# Altium integrated library Analog Devices Interface and Isolation Digital Isolators.IntLib: 645 symbols (part 19 of 36)
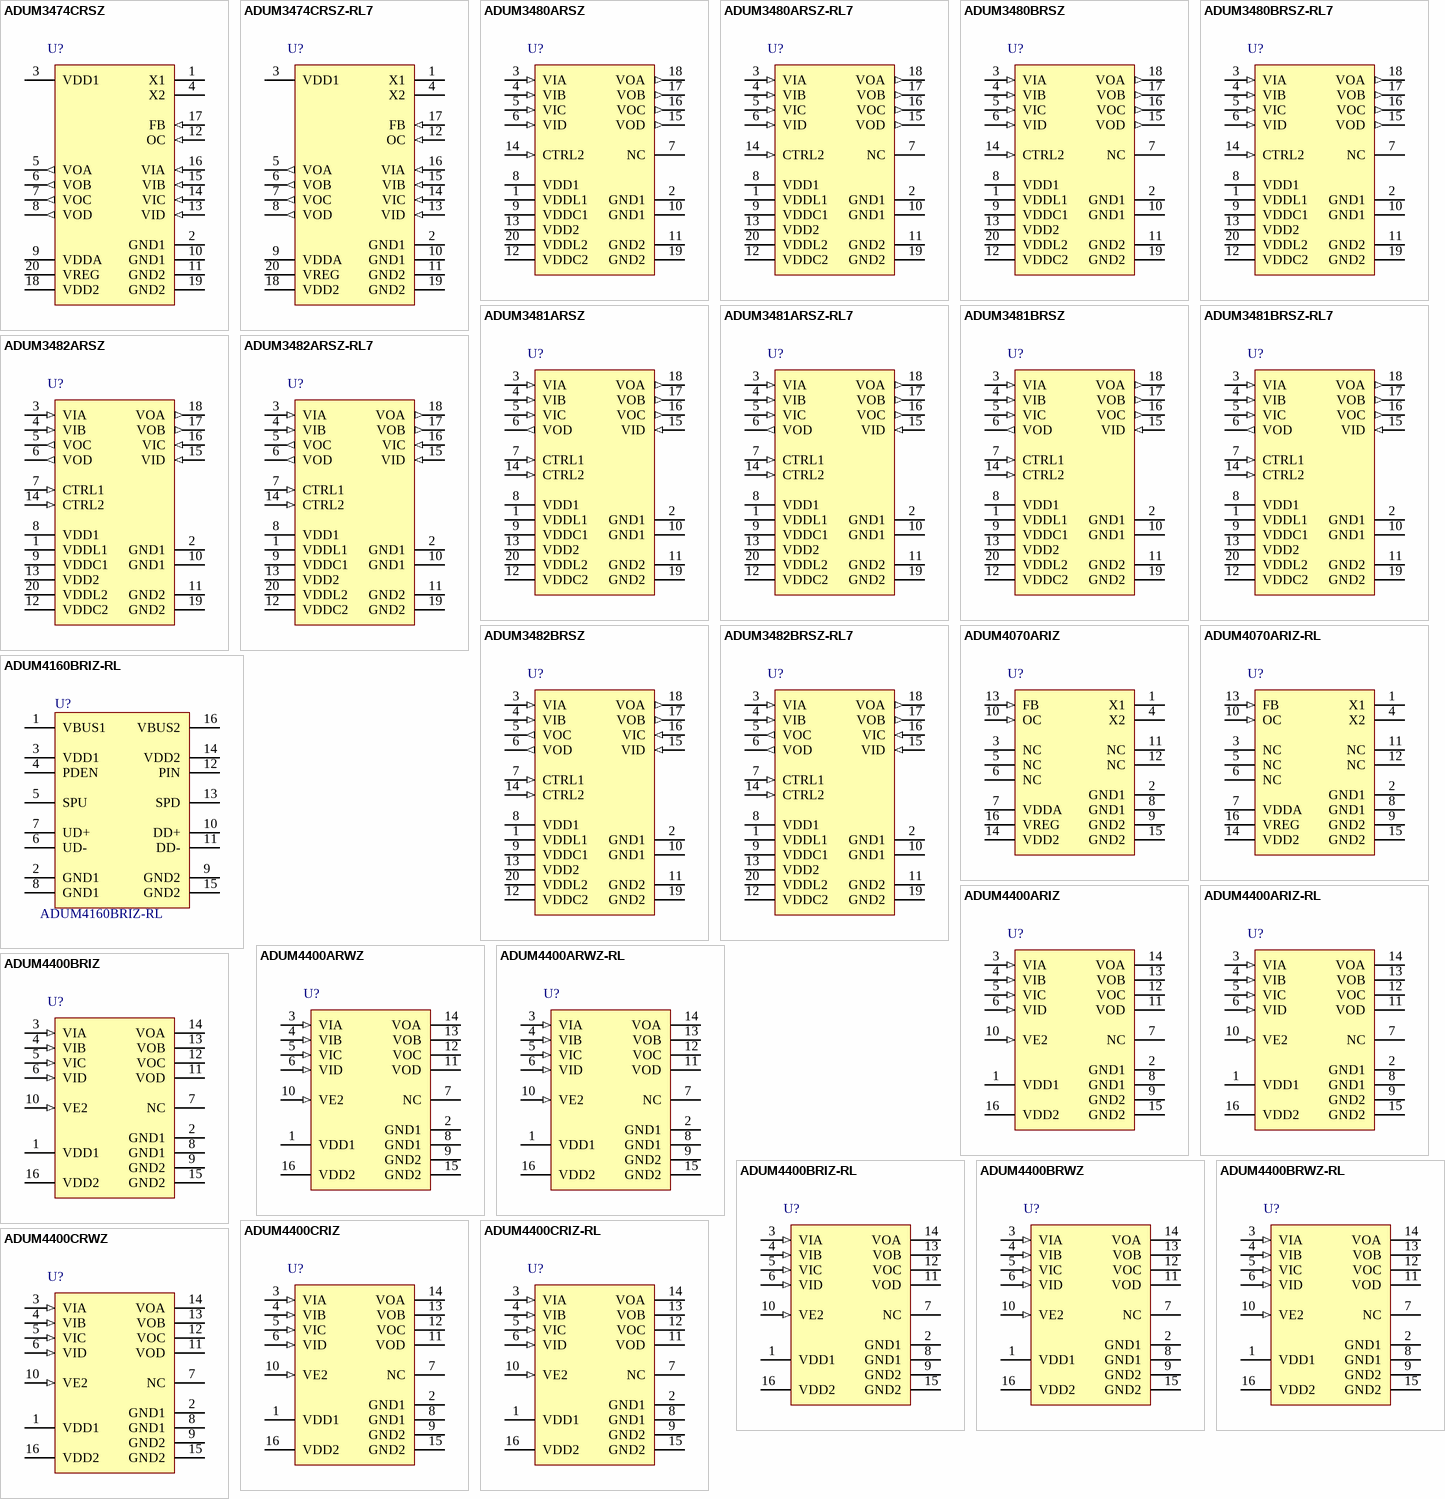
[diagram p38: symbols ADUM3474CRSZ to ADUM4400CRWZ]

## ADUM3474CRSZ-RL7
designator U?
Isolated Switching Regulator, 2.5 KV rms Insulation Rating, 25 Mbps Data Rate, 60 ns Delay, Industrial, 20-pin SOP (RS-20), Reel; Manufacturer: Analog Devices; PartNumber: ADUM3474CRSZ-RL7; Insulation Rating (kVrms): 2.5; Max Data Rate: 25Mbps; Prop Delay: 60ns; DatasheetVersion: Rev. 0; PackageVersion: Mar-03; PackageReference: RS-20; PackageDescription: 20-Pin Shrink Small Outline Package, Body 7.2 x 5.3 mm, Pitch 0.65 mm; Supplier 1: Mouser; Supplier Part Number 1: 584-ADUM3474CRSZ-R7; Max Operating Temp (degreesC): 105; Mounting Technology: Surface Mount; Code_JEDEC: MO-150AE; ComponentLink1Description: Manufacturer URL; ComponentLink1URL: http://www.analog.com/en/index.html; ComponentLink2Description: Datasheet; ComponentLink2URL: http://www.analog.com/static/imported-files/data_sheets/ADuM3470_3471_3472_3473_3474.pdf; ComponentLink3Description: Package Specification; ComponentLink3URL: http://www.analog.com/static/imported-files/packages/318405805657546556503576154334802686596RS_20.pdf
footprint ADI-RS-20_N (SOP, 20-Leads, Body 7.2x5.3mm, Pitch 0.65mm, IPC Medium Density)
footprint ADI-RS-20_L (SOP, 20-Leads, Body 7.2x5.3mm, Pitch 0.65mm, IPC High Density)
footprint ADI-RS-20_M (SOP, 20-Leads, Body 7.2x5.3mm, Pitch 0.65mm, IPC Low Density)
pins: 1 X1 (power) "Transformer Driver Output 1.", 2 GND1 (power) "Ground 1. Ground reference for isolator primary.", 3 VDD1 (power) "Transformer Driver Supply Voltage 3.0 V to 5.5 V. Connect to VDDA pin. Connect a 10 uF bypass capacitor from VDD1 to GND1.", 4 X2 (power) "Transformer Driver Output 2.", 5 VOA (out) "Logic Output A.", 6 VOB (out) "Logic Output B.", 7 VOC (out) "Logic Output C.", 8 VOD (out) "Logic Output D.", 9 VDDA (power) "Primary Supply Voltage 3.0 V to 5.5 V. Connect to VDD1 pin. Connect a 0.1 uF bypass capacitor from VDDA to GND1.", 10 GND1 (power) "Ground 1. Ground reference for isolator primary.", 11 GND2 (power) "Ground Reference for Isolator Side 2.", 12 OC (in) "Oscillator Control Pin. When OC = logic high = VDD2, the secondary controller runs open-loop. To regulate the output voltage, connect a resistor between the OC pin and GND2, and the secondary controller runs at a frequency (See Datasheet)", 13 VID (in) "Logic Input D.", 14 VIC (in) "Logic Input C.", 15 VIB (in) "Logic Input B.", 16 VIA (in) "Logic Input A.", 17 FB (in) "Feedback Input from the Secondary Output Voltage VISO. Use a resistor divider from VISO to the FB pin to make the VFB voltage equal to the 1.25 V internal reference level using the VISO = VFB x (R1 + R2)/R2 formula. The (See Datasheet)", 18 VDD2 (power) "The Internal Supply Voltage Pin for the Secondary Side Controller and Side 2 Data Channels. When a sufficient external voltage is supplied to VREG, the internal regulator regulates the VDD2 pin to 5.0 V. Otherwise, VDD2 (See Datasheet)", 19 GND2 (power) "Ground Reference for Isolator Side 2.", 20 VREG (power) "The Input of the Internal Regulator to Power the Secondary Side Controller and Side 2 Data Channels. VREG should be in the 5.5 V to 15 V range to regulate the VDD2 output to 5.0 V."

## ADUM3480ARSZ
designator U?
Quad Channel Small Isolator, 3.75 KV rms Insulation Rating, 1 Mbps Data Rate, 90 ns Delay, Industrial, 20-pin SOP (RS-20), Tube; Manufacturer: Analog Devices; PartNumber: ADUM3480ARSZ; Insulation Rating (kVrms): 3.75; Max Data Rate: 1Mbps; DatasheetVersion: Rev. 0; PackageVersion: Mar-03; PackageReference: RS-20; PackageDescription: 20-Pin Shrink Small Outline Package, Body 7.2 x 5.3 mm, Pitch 0.65 mm; Supplier 1: Digi-Key; Supplier Part Number 1: ADUM3480ARSZ-ND; Max Operating Temp (degreesC): 125; Mounting Technology: Surface Mount; Code_JEDEC: MO-150AE; ComponentLink1Description: Manufacturer URL; ComponentLink1URL: http://www.analog.com/en/index.html; ComponentLink2Description: Datasheet; ComponentLink2URL: http://www.analog.com/static/imported-files/data_sheets/ADuM3480_3481_3482.pdf; ComponentLink3Description: Package Specification; ComponentLink3URL: http://www.analog.com/static/imported-files/packages/318405805657546556503576154334802686596RS_20.pdf; ComponentLink4Description: URL Link1; ComponentLink4URL: Product URL:http://www.analog.com/en/interface-isolation/digital-isolators/adum3480/products/product.html
footprint ADI-RS-20_N (SOP, 20-Leads, Body 7.2x5.3mm, Pitch 0.65mm, IPC Medium Density)
footprint ADI-RS-20_L (SOP, 20-Leads, Body 7.2x5.3mm, Pitch 0.65mm, IPC High Density)
footprint ADI-RS-20_M (SOP, 20-Leads, Body 7.2x5.3mm, Pitch 0.65mm, IPC Low Density)
pins: 1 VDDL1 (power) "1.8 V to 5.5 V Supply Voltage for Isolator Side 1 Input/Output Circuits. Bypass VDDL1 to GND1 with a 0.01 uF to 0.1 uF ceramic capacitor. For 3.0 V to 5.5 V input/output operation, VDDL1 can be connected directly to VDD1.", 2 GND1 (power) "Ground 1. Ground reference for Isolator Side 1. Pin 2 and Pin 10 are internally connected, and connecting both to the PCB ground plane as close to the part as possible is recommended.", 3 VIA (in) "Logic Input A.", 4 VIB (in) "Logic Input B.", 5 VIC (in) "Logic Input C.", 6 VID (in) "Logic Input D.", 7 NC "No Connection. This pin is not connected internally and can be left floating or connected to VDD1 or GND1.", 8 VDD1 (power) "3.0 V to 5.5 V Supply Voltage for Isolator Side 1.", 9 VDDC1 (power) "Output Pin of an Internal Regulator for Side 1. Bypass VDDC1 to GND1 with a 0.01 uF to 0.1 uF ceramic capacitor. Do not use this pin to power external circuits.", 10 GND1 (power) "Ground 1. Ground reference for Isolator Side 1. Pin 2 and Pin 10 are internally connected, and connecting both to the PCB ground plane as close to the part as possible is recommended.", 11 GND2 (power) "Ground 2. Ground reference for Isolator Side 2. Pin 11 and Pin 19 are internally connected, and connecting both to the PCB ground plane as close to the part as possible is recommended.", 12 VDDC2 (power) "Output Pin of an Internal Regulator for Side 2. Bypass VDDC2 to GND2 with a 0.01 uF to 0.1 uF ceramic capacitor. Do not use this pin to power external circuits.", 13 VDD2 (power) "3.0 V to 5.5 V Supply Voltage for Isolator Side 2.", 14 CTRL2 (in) "Select Side 2 Output Default Level. Low = default output low. High = default output high.", 15 VOD (out) "Logic Output D.", 16 VOC (out) "Logic Output C.", 17 VOB (out) "Logic Output B.", 18 VOA (out) "Logic Output A.", 19 GND2 (power) "Ground 2. Ground reference for Isolator Side 2. Pin 11 and Pin 19 are internally connected, and connecting both to the PCB ground plane as close to the part as possible is recommended.", 20 VDDL2 (power) "1.8 V to 5.5 V Supply Voltage for Isolator Side 2 Input/Output Circuits. Bypass VDDL2 to GND2 with a 0.01 uF to 0.1 uF ceramic capacitor. For 3.0 V to 5.5 V input/output operation, VDDL2 can be connected directly to VDD2."

## ADUM3480ARSZ-RL7
designator U?
Quad Channel Small Isolator, 3.75 KV rms Insulation Rating, 1 Mbps Data Rate, 90 ns Delay, Industrial, 20-pin SOP (RS-20), Reel; Manufacturer: Analog Devices; PartNumber: ADUM3480ARSZ-RL7; Insulation Rating (kVrms): 3.75; Max Data Rate: 1Mbps; DatasheetVersion: Rev. 0; PackageVersion: Mar-03; PackageReference: RS-20; PackageDescription: 20-Pin Shrink Small Outline Package, Body 7.2 x 5.3 mm, Pitch 0.65 mm; Supplier 1: Digi-Key; Supplier Part Number 1: ADUM3480ARSZ-RL7-ND; Max Operating Temp (degreesC): 125; Mounting Technology: Surface Mount; Code_JEDEC: MO-150AE; ComponentLink1Description: Manufacturer URL; ComponentLink1URL: http://www.analog.com/en/index.html; ComponentLink2Description: Datasheet; ComponentLink2URL: http://www.analog.com/static/imported-files/data_sheets/ADuM3480_3481_3482.pdf; ComponentLink3Description: Package Specification; ComponentLink3URL: http://www.analog.com/static/imported-files/packages/318405805657546556503576154334802686596RS_20.pdf; ComponentLink4Description: URL Link1; ComponentLink4URL: Product URL:http://www.analog.com/en/interface-isolation/digital-isolators/adum3480/products/product.html
footprint ADI-RS-20_N (SOP, 20-Leads, Body 7.2x5.3mm, Pitch 0.65mm, IPC Medium Density)
footprint ADI-RS-20_L (SOP, 20-Leads, Body 7.2x5.3mm, Pitch 0.65mm, IPC High Density)
footprint ADI-RS-20_M (SOP, 20-Leads, Body 7.2x5.3mm, Pitch 0.65mm, IPC Low Density)
pins: 1 VDDL1 (power) "1.8 V to 5.5 V Supply Voltage for Isolator Side 1 Input/Output Circuits. Bypass VDDL1 to GND1 with a 0.01 uF to 0.1 uF ceramic capacitor. For 3.0 V to 5.5 V input/output operation, VDDL1 can be connected directly to VDD1.", 2 GND1 (power) "Ground 1. Ground reference for Isolator Side 1. Pin 2 and Pin 10 are internally connected, and connecting both to the PCB ground plane as close to the part as possible is recommended.", 3 VIA (in) "Logic Input A.", 4 VIB (in) "Logic Input B.", 5 VIC (in) "Logic Input C.", 6 VID (in) "Logic Input D.", 7 NC "No Connection. This pin is not connected internally and can be left floating or connected to VDD1 or GND1.", 8 VDD1 (power) "3.0 V to 5.5 V Supply Voltage for Isolator Side 1.", 9 VDDC1 (power) "Output Pin of an Internal Regulator for Side 1. Bypass VDDC1 to GND1 with a 0.01 uF to 0.1 uF ceramic capacitor. Do not use this pin to power external circuits.", 10 GND1 (power) "Ground 1. Ground reference for Isolator Side 1. Pin 2 and Pin 10 are internally connected, and connecting both to the PCB ground plane as close to the part as possible is recommended.", 11 GND2 (power) "Ground 2. Ground reference for Isolator Side 2. Pin 11 and Pin 19 are internally connected, and connecting both to the PCB ground plane as close to the part as possible is recommended.", 12 VDDC2 (power) "Output Pin of an Internal Regulator for Side 2. Bypass VDDC2 to GND2 with a 0.01 uF to 0.1 uF ceramic capacitor. Do not use this pin to power external circuits.", 13 VDD2 (power) "3.0 V to 5.5 V Supply Voltage for Isolator Side 2.", 14 CTRL2 (in) "Select Side 2 Output Default Level. Low = default output low. High = default output high.", 15 VOD (out) "Logic Output D.", 16 VOC (out) "Logic Output C.", 17 VOB (out) "Logic Output B.", 18 VOA (out) "Logic Output A.", 19 GND2 (power) "Ground 2. Ground reference for Isolator Side 2. Pin 11 and Pin 19 are internally connected, and connecting both to the PCB ground plane as close to the part as possible is recommended.", 20 VDDL2 (power) "1.8 V to 5.5 V Supply Voltage for Isolator Side 2 Input/Output Circuits. Bypass VDDL2 to GND2 with a 0.01 uF to 0.1 uF ceramic capacitor. For 3.0 V to 5.5 V input/output operation, VDDL2 can be connected directly to VDD2."

## ADUM3480BRSZ
designator U?
Quad Channel Small Isolator, 3.75 KV rms Insulation Rating, 25 Mbps Data Rate, 33 ns Delay, Industrial, 20-pin SOP (RS-20), Tube; Manufacturer: Analog Devices; PartNumber: ADUM3480BRSZ; Insulation Rating (kVrms): 3.75; Max Data Rate: 25Mbps; DatasheetVersion: Rev. 0; PackageVersion: Mar-03; PackageReference: RS-20; PackageDescription: 20-Pin Shrink Small Outline Package, Body 7.2 x 5.3 mm, Pitch 0.65 mm; Supplier 1: Digi-Key; Supplier Part Number 1: ADUM3480BRSZ-ND; Max Operating Temp (degreesC): 125; Mounting Technology: Surface Mount; Code_JEDEC: MO-150AE; ComponentLink1Description: Manufacturer URL; ComponentLink1URL: http://www.analog.com/en/index.html; ComponentLink2Description: Datasheet; ComponentLink2URL: http://www.analog.com/static/imported-files/data_sheets/ADuM3480_3481_3482.pdf; ComponentLink3Description: Package Specification; ComponentLink3URL: http://www.analog.com/static/imported-files/packages/318405805657546556503576154334802686596RS_20.pdf; ComponentLink4Description: URL Link1; ComponentLink4URL: Product URL:http://www.analog.com/en/interface-isolation/digital-isolators/adum3480/products/product.html
footprint ADI-RS-20_N (SOP, 20-Leads, Body 7.2x5.3mm, Pitch 0.65mm, IPC Medium Density)
footprint ADI-RS-20_L (SOP, 20-Leads, Body 7.2x5.3mm, Pitch 0.65mm, IPC High Density)
footprint ADI-RS-20_M (SOP, 20-Leads, Body 7.2x5.3mm, Pitch 0.65mm, IPC Low Density)
pins: 1 VDDL1 (power) "1.8 V to 5.5 V Supply Voltage for Isolator Side 1 Input/Output Circuits. Bypass VDDL1 to GND1 with a 0.01 uF to 0.1 uF ceramic capacitor. For 3.0 V to 5.5 V input/output operation, VDDL1 can be connected directly to VDD1.", 2 GND1 (power) "Ground 1. Ground reference for Isolator Side 1. Pin 2 and Pin 10 are internally connected, and connecting both to the PCB ground plane as close to the part as possible is recommended.", 3 VIA (in) "Logic Input A.", 4 VIB (in) "Logic Input B.", 5 VIC (in) "Logic Input C.", 6 VID (in) "Logic Input D.", 7 NC "No Connection. This pin is not connected internally and can be left floating or connected to VDD1 or GND1.", 8 VDD1 (power) "3.0 V to 5.5 V Supply Voltage for Isolator Side 1.", 9 VDDC1 (power) "Output Pin of an Internal Regulator for Side 1. Bypass VDDC1 to GND1 with a 0.01 uF to 0.1 uF ceramic capacitor. Do not use this pin to power external circuits.", 10 GND1 (power) "Ground 1. Ground reference for Isolator Side 1. Pin 2 and Pin 10 are internally connected, and connecting both to the PCB ground plane as close to the part as possible is recommended.", 11 GND2 (power) "Ground 2. Ground reference for Isolator Side 2. Pin 11 and Pin 19 are internally connected, and connecting both to the PCB ground plane as close to the part as possible is recommended.", 12 VDDC2 (power) "Output Pin of an Internal Regulator for Side 2. Bypass VDDC2 to GND2 with a 0.01 uF to 0.1 uF ceramic capacitor. Do not use this pin to power external circuits.", 13 VDD2 (power) "3.0 V to 5.5 V Supply Voltage for Isolator Side 2.", 14 CTRL2 (in) "Select Side 2 Output Default Level. Low = default output low. High = default output high.", 15 VOD (out) "Logic Output D.", 16 VOC (out) "Logic Output C.", 17 VOB (out) "Logic Output B.", 18 VOA (out) "Logic Output A.", 19 GND2 (power) "Ground 2. Ground reference for Isolator Side 2. Pin 11 and Pin 19 are internally connected, and connecting both to the PCB ground plane as close to the part as possible is recommended.", 20 VDDL2 (power) "1.8 V to 5.5 V Supply Voltage for Isolator Side 2 Input/Output Circuits. Bypass VDDL2 to GND2 with a 0.01 uF to 0.1 uF ceramic capacitor. For 3.0 V to 5.5 V input/output operation, VDDL2 can be connected directly to VDD2."

## ADUM3480BRSZ-RL7
designator U?
Quad Channel Small Isolator, 3.75 KV rms Insulation Rating, 25 Mbps Data Rate, 33 ns Delay, Industrial, 20-pin SOP (RS-20), Reel; Manufacturer: Analog Devices; PartNumber: ADUM3480BRSZ-RL7; Insulation Rating (kVrms): 3.75; Max Data Rate: 25Mbps; DatasheetVersion: Rev. 0; PackageVersion: Mar-03; PackageReference: RS-20; PackageDescription: 20-Pin Shrink Small Outline Package, Body 7.2 x 5.3 mm, Pitch 0.65 mm; Supplier 1: Digi-Key; Supplier Part Number 1: ADUM3480BRSZ-RL7-ND; Max Operating Temp (degreesC): 125; Mounting Technology: Surface Mount; Code_JEDEC: MO-150AE; ComponentLink1Description: Manufacturer URL; ComponentLink1URL: http://www.analog.com/en/index.html; ComponentLink2Description: Datasheet; ComponentLink2URL: http://www.analog.com/static/imported-files/data_sheets/ADuM3480_3481_3482.pdf; ComponentLink3Description: Package Specification; ComponentLink3URL: http://www.analog.com/static/imported-files/packages/318405805657546556503576154334802686596RS_20.pdf; ComponentLink4Description: URL Link1; ComponentLink4URL: Product URL:http://www.analog.com/en/interface-isolation/digital-isolators/adum3480/products/product.html
footprint ADI-RS-20_N (SOP, 20-Leads, Body 7.2x5.3mm, Pitch 0.65mm, IPC Medium Density)
footprint ADI-RS-20_L (SOP, 20-Leads, Body 7.2x5.3mm, Pitch 0.65mm, IPC High Density)
footprint ADI-RS-20_M (SOP, 20-Leads, Body 7.2x5.3mm, Pitch 0.65mm, IPC Low Density)
pins: 1 VDDL1 (power) "1.8 V to 5.5 V Supply Voltage for Isolator Side 1 Input/Output Circuits. Bypass VDDL1 to GND1 with a 0.01 uF to 0.1 uF ceramic capacitor. For 3.0 V to 5.5 V input/output operation, VDDL1 can be connected directly to VDD1.", 2 GND1 (power) "Ground 1. Ground reference for Isolator Side 1. Pin 2 and Pin 10 are internally connected, and connecting both to the PCB ground plane as close to the part as possible is recommended.", 3 VIA (in) "Logic Input A.", 4 VIB (in) "Logic Input B.", 5 VIC (in) "Logic Input C.", 6 VID (in) "Logic Input D.", 7 NC "No Connection. This pin is not connected internally and can be left floating or connected to VDD1 or GND1.", 8 VDD1 (power) "3.0 V to 5.5 V Supply Voltage for Isolator Side 1.", 9 VDDC1 (power) "Output Pin of an Internal Regulator for Side 1. Bypass VDDC1 to GND1 with a 0.01 uF to 0.1 uF ceramic capacitor. Do not use this pin to power external circuits.", 10 GND1 (power) "Ground 1. Ground reference for Isolator Side 1. Pin 2 and Pin 10 are internally connected, and connecting both to the PCB ground plane as close to the part as possible is recommended.", 11 GND2 (power) "Ground 2. Ground reference for Isolator Side 2. Pin 11 and Pin 19 are internally connected, and connecting both to the PCB ground plane as close to the part as possible is recommended.", 12 VDDC2 (power) "Output Pin of an Internal Regulator for Side 2. Bypass VDDC2 to GND2 with a 0.01 uF to 0.1 uF ceramic capacitor. Do not use this pin to power external circuits.", 13 VDD2 (power) "3.0 V to 5.5 V Supply Voltage for Isolator Side 2.", 14 CTRL2 (in) "Select Side 2 Output Default Level. Low = default output low. High = default output high.", 15 VOD (out) "Logic Output D.", 16 VOC (out) "Logic Output C.", 17 VOB (out) "Logic Output B.", 18 VOA (out) "Logic Output A.", 19 GND2 (power) "Ground 2. Ground reference for Isolator Side 2. Pin 11 and Pin 19 are internally connected, and connecting both to the PCB ground plane as close to the part as possible is recommended.", 20 VDDL2 (power) "1.8 V to 5.5 V Supply Voltage for Isolator Side 2 Input/Output Circuits. Bypass VDDL2 to GND2 with a 0.01 uF to 0.1 uF ceramic capacitor. For 3.0 V to 5.5 V input/output operation, VDDL2 can be connected directly to VDD2."

## ADUM3481ARSZ
designator U?
Quad Channel Small Isolator, 3.75 KV rms Insulation Rating, 1 Mbps Data Rate, 90 ns Delay, Industrial, 20-pin SOP (RS-20), Tube; Manufacturer: Analog Devices; PartNumber: ADUM3481ARSZ; Insulation Rating (kVrms): 3.75; Max Data Rate: 1Mbps; DatasheetVersion: Rev. 0; PackageVersion: Mar-03; PackageReference: RS-20; PackageDescription: 20-Pin Shrink Small Outline Package, Body 7.2 x 5.3 mm, Pitch 0.65 mm; Supplier 1: Digi-Key; Supplier Part Number 1: ADUM3481ARSZ-ND; Max Operating Temp (degreesC): 125; Mounting Technology: Surface Mount; Code_JEDEC: MO-150AE; ComponentLink1Description: Manufacturer URL; ComponentLink1URL: http://www.analog.com/en/index.html; ComponentLink2Description: Datasheet; ComponentLink2URL: http://www.analog.com/static/imported-files/data_sheets/ADuM3480_3481_3482.pdf; ComponentLink3Description: Package Specification; ComponentLink3URL: http://www.analog.com/static/imported-files/packages/318405805657546556503576154334802686596RS_20.pdf; ComponentLink4Description: URL Link1; ComponentLink4URL: Product URL:http://www.analog.com/en/interface-isolation/digital-isolators/adum3481/products/product.html
footprint ADI-RS-20_N (SOP, 20-Leads, Body 7.2x5.3mm, Pitch 0.65mm, IPC Medium Density)
footprint ADI-RS-20_L (SOP, 20-Leads, Body 7.2x5.3mm, Pitch 0.65mm, IPC High Density)
footprint ADI-RS-20_M (SOP, 20-Leads, Body 7.2x5.3mm, Pitch 0.65mm, IPC Low Density)
pins: 1 VDDL1 (power) "1.8 V to 5.5 V Supply Voltage for Isolator Side 1 Input/Output Circuits. Bypass VDDL1 to GND1 with a 0.01 uF to 0.1 uF ceramic capacitor. For 3.0 V to 5.5 V input/output operation, VDDL1 can be connected directly to VDD1.", 2 GND1 (power) "Ground 1. Ground reference for Isolator Side 1. Pin 2 and Pin 10 are internally connected, and connecting both to the PCB ground plane as close to the part as possible is recommended.", 3 VIA (in) "Logic Input A.", 4 VIB (in) "Logic Input B.", 5 VIC (in) "Logic Input C.", 6 VOD (out) "Logic Output D.", 7 CTRL1 (in) "Select Side 1 Output Default Level. Low = default output low. High = default output high.", 8 VDD1 (power) "3.0 V to 5.5 V Supply Voltage for Isolator Side 1.", 9 VDDC1 (power) "Output Pin of an Internal Regulator for Side 1. Bypass VDDC1 to GND1 with a 0.01 uF to 0.1 uF ceramic capacitor. Do not use this pin to power external circuits.", 10 GND1 (power) "Ground 1. Ground reference for Isolator Side 1. Pin 2 and Pin 10 are internally connected, and connecting both to the PCB ground plane as close to the part as possible is recommended.", 11 GND2 (power) "Ground 2. Ground reference for Isolator Side 2. Pin 11 and Pin 19 are internally connected, and connecting both to the PCB ground plane as close to the part as possible is recommended.", 12 VDDC2 (power) "Output Pin of an Internal Regulator for Side 2. Bypass VDDC2 to GND2 with a 0.01 uF to 0.1 uF ceramic capacitor. Do not use this pin to power external circuits.", 13 VDD2 (power) "3.0 V to 5.5 V Supply Voltage for Isolator Side 2.", 14 CTRL2 (in) "Select Side 2 Output Default Level. Low = default output low. High = default output high.", 15 VID (in) "Logic Input D.", 16 VOC (out) "Logic Output C.", 17 VOB (out) "Logic Output B.", 18 VOA (out) "Logic Output A.", 19 GND2 (power) "Ground 2. Ground reference for Isolator Side 2. Pin 11 and Pin 19 are internally connected, and connecting both to the PCB ground plane as close to the part as possible is recommended.", 20 VDDL2 (power) "1.8 V to 5.5 V Supply Voltage for Isolator Side 2 Input/Output Circuits. Bypass VDDL2 to GND2 with a 0.01 uF to 0.1 uF ceramic capacitor. For 3.0 V to 5.5 V input/output operation, VDDL2 can be connected directly to VDD2."

## ADUM3481ARSZ-RL7
designator U?
Quad Channel Small Isolator, 3.75 KV rms Insulation Rating, 1 Mbps Data Rate, 90 ns Delay, Industrial, 20-pin SOP (RS-20), Reel; Manufacturer: Analog Devices; PartNumber: ADUM3481ARSZ-RL7; Insulation Rating (kVrms): 3.75; Max Data Rate: 1Mbps; DatasheetVersion: Rev. 0; PackageVersion: Mar-03; PackageReference: RS-20; PackageDescription: 20-Pin Shrink Small Outline Package, Body 7.2 x 5.3 mm, Pitch 0.65 mm; Supplier 1: Digi-Key; Supplier Part Number 1: ADUM3481ARSZ-RL7-ND; Max Operating Temp (degreesC): 125; Mounting Technology: Surface Mount; Code_JEDEC: MO-150AE; ComponentLink1Description: Manufacturer URL; ComponentLink1URL: http://www.analog.com/en/index.html; ComponentLink2Description: Datasheet; ComponentLink2URL: http://www.analog.com/static/imported-files/data_sheets/ADuM3480_3481_3482.pdf; ComponentLink3Description: Package Specification; ComponentLink3URL: http://www.analog.com/static/imported-files/packages/318405805657546556503576154334802686596RS_20.pdf; ComponentLink4Description: URL Link1; ComponentLink4URL: Product URL:http://www.analog.com/en/interface-isolation/digital-isolators/adum3481/products/product.html
footprint ADI-RS-20_N (SOP, 20-Leads, Body 7.2x5.3mm, Pitch 0.65mm, IPC Medium Density)
footprint ADI-RS-20_L (SOP, 20-Leads, Body 7.2x5.3mm, Pitch 0.65mm, IPC High Density)
footprint ADI-RS-20_M (SOP, 20-Leads, Body 7.2x5.3mm, Pitch 0.65mm, IPC Low Density)
pins: 1 VDDL1 (power) "1.8 V to 5.5 V Supply Voltage for Isolator Side 1 Input/Output Circuits. Bypass VDDL1 to GND1 with a 0.01 uF to 0.1 uF ceramic capacitor. For 3.0 V to 5.5 V input/output operation, VDDL1 can be connected directly to VDD1.", 2 GND1 (power) "Ground 1. Ground reference for Isolator Side 1. Pin 2 and Pin 10 are internally connected, and connecting both to the PCB ground plane as close to the part as possible is recommended.", 3 VIA (in) "Logic Input A.", 4 VIB (in) "Logic Input B.", 5 VIC (in) "Logic Input C.", 6 VOD (out) "Logic Output D.", 7 CTRL1 (in) "Select Side 1 Output Default Level. Low = default output low. High = default output high.", 8 VDD1 (power) "3.0 V to 5.5 V Supply Voltage for Isolator Side 1.", 9 VDDC1 (power) "Output Pin of an Internal Regulator for Side 1. Bypass VDDC1 to GND1 with a 0.01 uF to 0.1 uF ceramic capacitor. Do not use this pin to power external circuits.", 10 GND1 (power) "Ground 1. Ground reference for Isolator Side 1. Pin 2 and Pin 10 are internally connected, and connecting both to the PCB ground plane as close to the part as possible is recommended.", 11 GND2 (power) "Ground 2. Ground reference for Isolator Side 2. Pin 11 and Pin 19 are internally connected, and connecting both to the PCB ground plane as close to the part as possible is recommended.", 12 VDDC2 (power) "Output Pin of an Internal Regulator for Side 2. Bypass VDDC2 to GND2 with a 0.01 uF to 0.1 uF ceramic capacitor. Do not use this pin to power external circuits.", 13 VDD2 (power) "3.0 V to 5.5 V Supply Voltage for Isolator Side 2.", 14 CTRL2 (in) "Select Side 2 Output Default Level. Low = default output low. High = default output high.", 15 VID (in) "Logic Input D.", 16 VOC (out) "Logic Output C.", 17 VOB (out) "Logic Output B.", 18 VOA (out) "Logic Output A.", 19 GND2 (power) "Ground 2. Ground reference for Isolator Side 2. Pin 11 and Pin 19 are internally connected, and connecting both to the PCB ground plane as close to the part as possible is recommended.", 20 VDDL2 (power) "1.8 V to 5.5 V Supply Voltage for Isolator Side 2 Input/Output Circuits. Bypass VDDL2 to GND2 with a 0.01 uF to 0.1 uF ceramic capacitor. For 3.0 V to 5.5 V input/output operation, VDDL2 can be connected directly to VDD2."

## ADUM3481BRSZ
designator U?
Quad Channel Small Isolator, 3.75 KV rms Insulation Rating, 25 Mbps Data Rate, 33 ns Delay, Industrial, 20-pin SOP (RS-20), Tube; Manufacturer: Analog Devices; PartNumber: ADUM3481BRSZ; Insulation Rating (kVrms): 3.75; Max Data Rate: 25Mbps; DatasheetVersion: Rev. 0; PackageVersion: Mar-03; PackageReference: RS-20; PackageDescription: 20-Pin Shrink Small Outline Package, Body 7.2 x 5.3 mm, Pitch 0.65 mm; Supplier 1: Digi-Key; Supplier Part Number 1: ADUM3481BRSZ-ND; Max Operating Temp (degreesC): 125; Mounting Technology: Surface Mount; Code_JEDEC: MO-150AE; ComponentLink1Description: Manufacturer URL; ComponentLink1URL: http://www.analog.com/en/index.html; ComponentLink2Description: Datasheet; ComponentLink2URL: http://www.analog.com/static/imported-files/data_sheets/ADuM3480_3481_3482.pdf; ComponentLink3Description: Package Specification; ComponentLink3URL: http://www.analog.com/static/imported-files/packages/318405805657546556503576154334802686596RS_20.pdf; ComponentLink4Description: URL Link1; ComponentLink4URL: Product URL:http://www.analog.com/en/interface-isolation/digital-isolators/adum3481/products/product.html
footprint ADI-RS-20_N (SOP, 20-Leads, Body 7.2x5.3mm, Pitch 0.65mm, IPC Medium Density)
footprint ADI-RS-20_L (SOP, 20-Leads, Body 7.2x5.3mm, Pitch 0.65mm, IPC High Density)
footprint ADI-RS-20_M (SOP, 20-Leads, Body 7.2x5.3mm, Pitch 0.65mm, IPC Low Density)
pins: 1 VDDL1 (power) "1.8 V to 5.5 V Supply Voltage for Isolator Side 1 Input/Output Circuits. Bypass VDDL1 to GND1 with a 0.01 uF to 0.1 uF ceramic capacitor. For 3.0 V to 5.5 V input/output operation, VDDL1 can be connected directly to VDD1.", 2 GND1 (power) "Ground 1. Ground reference for Isolator Side 1. Pin 2 and Pin 10 are internally connected, and connecting both to the PCB ground plane as close to the part as possible is recommended.", 3 VIA (in) "Logic Input A.", 4 VIB (in) "Logic Input B.", 5 VIC (in) "Logic Input C.", 6 VOD (out) "Logic Output D.", 7 CTRL1 (in) "Select Side 1 Output Default Level. Low = default output low. High = default output high.", 8 VDD1 (power) "3.0 V to 5.5 V Supply Voltage for Isolator Side 1.", 9 VDDC1 (power) "Output Pin of an Internal Regulator for Side 1. Bypass VDDC1 to GND1 with a 0.01 uF to 0.1 uF ceramic capacitor. Do not use this pin to power external circuits.", 10 GND1 (power) "Ground 1. Ground reference for Isolator Side 1. Pin 2 and Pin 10 are internally connected, and connecting both to the PCB ground plane as close to the part as possible is recommended.", 11 GND2 (power) "Ground 2. Ground reference for Isolator Side 2. Pin 11 and Pin 19 are internally connected, and connecting both to the PCB ground plane as close to the part as possible is recommended.", 12 VDDC2 (power) "Output Pin of an Internal Regulator for Side 2. Bypass VDDC2 to GND2 with a 0.01 uF to 0.1 uF ceramic capacitor. Do not use this pin to power external circuits.", 13 VDD2 (power) "3.0 V to 5.5 V Supply Voltage for Isolator Side 2.", 14 CTRL2 (in) "Select Side 2 Output Default Level. Low = default output low. High = default output high.", 15 VID (in) "Logic Input D.", 16 VOC (out) "Logic Output C.", 17 VOB (out) "Logic Output B.", 18 VOA (out) "Logic Output A.", 19 GND2 (power) "Ground 2. Ground reference for Isolator Side 2. Pin 11 and Pin 19 are internally connected, and connecting both to the PCB ground plane as close to the part as possible is recommended.", 20 VDDL2 (power) "1.8 V to 5.5 V Supply Voltage for Isolator Side 2 Input/Output Circuits. Bypass VDDL2 to GND2 with a 0.01 uF to 0.1 uF ceramic capacitor. For 3.0 V to 5.5 V input/output operation, VDDL2 can be connected directly to VDD2."

## ADUM3481BRSZ-RL7
designator U?
Quad Channel Small Isolator, 3.75 KV rms Insulation Rating, 25 Mbps Data Rate, 33 ns Delay, Industrial, 20-pin SOP (RS-20), Reel; Manufacturer: Analog Devices; PartNumber: ADUM3481BRSZ-RL7; Insulation Rating (kVrms): 3.75; Max Data Rate: 25Mbps; DatasheetVersion: Rev. 0; PackageVersion: Mar-03; PackageReference: RS-20; PackageDescription: 20-Pin Shrink Small Outline Package, Body 7.2 x 5.3 mm, Pitch 0.65 mm; Supplier 1: Digi-Key; Supplier Part Number 1: ADUM3481BRSZ-RL7-ND; Max Operating Temp (degreesC): 125; Mounting Technology: Surface Mount; Code_JEDEC: MO-150AE; ComponentLink1Description: Manufacturer URL; ComponentLink1URL: http://www.analog.com/en/index.html; ComponentLink2Description: Datasheet; ComponentLink2URL: http://www.analog.com/static/imported-files/data_sheets/ADuM3480_3481_3482.pdf; ComponentLink3Description: Package Specification; ComponentLink3URL: http://www.analog.com/static/imported-files/packages/318405805657546556503576154334802686596RS_20.pdf; ComponentLink4Description: URL Link1; ComponentLink4URL: Product URL:http://www.analog.com/en/interface-isolation/digital-isolators/adum3481/products/product.html
footprint ADI-RS-20_N (SOP, 20-Leads, Body 7.2x5.3mm, Pitch 0.65mm, IPC Medium Density)
footprint ADI-RS-20_L (SOP, 20-Leads, Body 7.2x5.3mm, Pitch 0.65mm, IPC High Density)
footprint ADI-RS-20_M (SOP, 20-Leads, Body 7.2x5.3mm, Pitch 0.65mm, IPC Low Density)
pins: 1 VDDL1 (power) "1.8 V to 5.5 V Supply Voltage for Isolator Side 1 Input/Output Circuits. Bypass VDDL1 to GND1 with a 0.01 uF to 0.1 uF ceramic capacitor. For 3.0 V to 5.5 V input/output operation, VDDL1 can be connected directly to VDD1.", 2 GND1 (power) "Ground 1. Ground reference for Isolator Side 1. Pin 2 and Pin 10 are internally connected, and connecting both to the PCB ground plane as close to the part as possible is recommended.", 3 VIA (in) "Logic Input A.", 4 VIB (in) "Logic Input B.", 5 VIC (in) "Logic Input C.", 6 VOD (out) "Logic Output D.", 7 CTRL1 (in) "Select Side 1 Output Default Level. Low = default output low. High = default output high.", 8 VDD1 (power) "3.0 V to 5.5 V Supply Voltage for Isolator Side 1.", 9 VDDC1 (power) "Output Pin of an Internal Regulator for Side 1. Bypass VDDC1 to GND1 with a 0.01 uF to 0.1 uF ceramic capacitor. Do not use this pin to power external circuits.", 10 GND1 (power) "Ground 1. Ground reference for Isolator Side 1. Pin 2 and Pin 10 are internally connected, and connecting both to the PCB ground plane as close to the part as possible is recommended.", 11 GND2 (power) "Ground 2. Ground reference for Isolator Side 2. Pin 11 and Pin 19 are internally connected, and connecting both to the PCB ground plane as close to the part as possible is recommended.", 12 VDDC2 (power) "Output Pin of an Internal Regulator for Side 2. Bypass VDDC2 to GND2 with a 0.01 uF to 0.1 uF ceramic capacitor. Do not use this pin to power external circuits.", 13 VDD2 (power) "3.0 V to 5.5 V Supply Voltage for Isolator Side 2.", 14 CTRL2 (in) "Select Side 2 Output Default Level. Low = default output low. High = default output high.", 15 VID (in) "Logic Input D.", 16 VOC (out) "Logic Output C.", 17 VOB (out) "Logic Output B.", 18 VOA (out) "Logic Output A.", 19 GND2 (power) "Ground 2. Ground reference for Isolator Side 2. Pin 11 and Pin 19 are internally connected, and connecting both to the PCB ground plane as close to the part as possible is recommended.", 20 VDDL2 (power) "1.8 V to 5.5 V Supply Voltage for Isolator Side 2 Input/Output Circuits. Bypass VDDL2 to GND2 with a 0.01 uF to 0.1 uF ceramic capacitor. For 3.0 V to 5.5 V input/output operation, VDDL2 can be connected directly to VDD2."

## ADUM3482ARSZ
designator U?
Quad Channel Small Isolator, 3.75 KV rms Insulation Rating, 1 Mbps Data Rate, 90 ns Delay, Industrial, 20-pin SOP (RS-20), Tube; Manufacturer: Analog Devices; PartNumber: ADUM3482ARSZ; Insulation Rating (kVrms): 3.75; Max Data Rate: 1Mbps; DatasheetVersion: Rev. 0; PackageVersion: Mar-03; PackageReference: RS-20; PackageDescription: 20-Pin Shrink Small Outline Package, Body 7.2 x 5.3 mm, Pitch 0.65 mm; Supplier 1: Digi-Key; Supplier Part Number 1: ADUM3482ARSZ-ND; Max Operating Temp (degreesC): 125; Mounting Technology: Surface Mount; Code_JEDEC: MO-150AE; ComponentLink1Description: Manufacturer URL; ComponentLink1URL: http://www.analog.com/en/index.html; ComponentLink2Description: Datasheet; ComponentLink2URL: http://www.analog.com/static/imported-files/data_sheets/ADuM3480_3481_3482.pdf; ComponentLink3Description: Package Specification; ComponentLink3URL: http://www.analog.com/static/imported-files/packages/318405805657546556503576154334802686596RS_20.pdf; ComponentLink4Description: URL Link1; ComponentLink4URL: Product URL:http://www.analog.com/en/interface-isolation/digital-isolators/adum3482/products/product.html
footprint ADI-RS-20_N (SOP, 20-Leads, Body 7.2x5.3mm, Pitch 0.65mm, IPC Medium Density)
footprint ADI-RS-20_L (SOP, 20-Leads, Body 7.2x5.3mm, Pitch 0.65mm, IPC High Density)
footprint ADI-RS-20_M (SOP, 20-Leads, Body 7.2x5.3mm, Pitch 0.65mm, IPC Low Density)
pins: 1 VDDL1 (power) "1.8 V to 5.5 V Supply Voltage for Isolator Side 1 Input/Output Circuits. Bypass VDDL1 to GND1 with a 0.01 uF to 0.1 uF ceramic capacitor. For 3.0 V to 5.5 V input/output operation, VDDL1 can be connected directly to VDD1.", 2 GND1 (power) "Ground 1. Ground reference for Isolator Side 1. Pin 2 and Pin 10 are internally connected, and connecting both to the PCB ground plane as close to the part as possible is recommended.", 3 VIA (in) "Logic Input A.", 4 VIB (in) "Logic Input B.", 5 VOC (out) "Logic Output C.", 6 VOD (out) "Logic Output D.", 7 CTRL1 (in) "Select Side 1 Output Default Level. Low = default output low. High = default output high.", 8 VDD1 (power) "3.0 V to 5.5 V Supply Voltage for Isolator Side 1.", 9 VDDC1 (power) "Output Pin of an Internal Regulator for Side 1. Bypass VDDC1 to GND1 with a 0.01 uF to 0.1 uF ceramic capacitor. Do not use this pin to power external circuits.", 10 GND1 (power) "Ground 1. Ground reference for Isolator Side 1. Pin 2 and Pin 10 are internally connected, and connecting both to the PCB ground plane as close to the part as possible is recommended.", 11 GND2 (power) "Ground 2. Ground reference for Isolator Side 2. Pin 11 and Pin 19 are internally connected, and connecting both to the PCB ground plane as close to the part as possible is recommended.", 12 VDDC2 (power) "Output Pin of an Internal Regulator for Side 2. Bypass VDDC2 to GND2 with a 0.01 uF to 0.1 uF ceramic capacitor. Do not use this pin to power external circuits.", 13 VDD2 (power) "3.0 V to 5.5 V Supply Voltage for Isolator Side 2.", 14 CTRL2 (in) "Select Side 2 Output Default Level. Low = default output low. High = default output high.", 15 VID (in) "Logic Input D.", 16 VIC (in) "Logic Input C.", 17 VOB (out) "Logic Output B.", 18 VOA (out) "Logic Output A.", 19 GND2 (power) "Ground 2. Ground reference for Isolator Side 2. Pin 11 and Pin 19 are internally connected, and connecting both to the PCB ground plane as close to the part as possible is recommended.", 20 VDDL2 (power) "1.8 V to 5.5 V Supply Voltage for Isolator Side 2 Input/Output Circuits. Bypass VDDL2 to GND2 with a 0.01 uF to 0.1 uF ceramic capacitor. For 3.0 V to 5.5 V input/output operation, VDDL2 can be connected directly to VDD2."

## ADUM3482ARSZ-RL7
designator U?
Quad Channel Small Isolator, 3.75 KV rms Insulation Rating, 1 Mbps Data Rate, 90 ns Delay, Industrial, 20-pin SOP (RS-20), Reel; Manufacturer: Analog Devices; PartNumber: ADUM3482ARSZ-RL7; Insulation Rating (kVrms): 3.75; Max Data Rate: 1Mbps; DatasheetVersion: Rev. 0; PackageVersion: Mar-03; PackageReference: RS-20; PackageDescription: 20-Pin Shrink Small Outline Package, Body 7.2 x 5.3 mm, Pitch 0.65 mm; Supplier 1: Digi-Key; Supplier Part Number 1: ADUM3482ARSZ-RL7-ND; Max Operating Temp (degreesC): 125; Mounting Technology: Surface Mount; Code_JEDEC: MO-150AE; ComponentLink1Description: Manufacturer URL; ComponentLink1URL: http://www.analog.com/en/index.html; ComponentLink2Description: Datasheet; ComponentLink2URL: http://www.analog.com/static/imported-files/data_sheets/ADuM3480_3481_3482.pdf; ComponentLink3Description: Package Specification; ComponentLink3URL: http://www.analog.com/static/imported-files/packages/318405805657546556503576154334802686596RS_20.pdf; ComponentLink4Description: URL Link1; ComponentLink4URL: Product URL:http://www.analog.com/en/interface-isolation/digital-isolators/adum3482/products/product.html
footprint ADI-RS-20_N (SOP, 20-Leads, Body 7.2x5.3mm, Pitch 0.65mm, IPC Medium Density)
footprint ADI-RS-20_L (SOP, 20-Leads, Body 7.2x5.3mm, Pitch 0.65mm, IPC High Density)
footprint ADI-RS-20_M (SOP, 20-Leads, Body 7.2x5.3mm, Pitch 0.65mm, IPC Low Density)
pins: 1 VDDL1 (power) "1.8 V to 5.5 V Supply Voltage for Isolator Side 1 Input/Output Circuits. Bypass VDDL1 to GND1 with a 0.01 uF to 0.1 uF ceramic capacitor. For 3.0 V to 5.5 V input/output operation, VDDL1 can be connected directly to VDD1.", 2 GND1 (power) "Ground 1. Ground reference for Isolator Side 1. Pin 2 and Pin 10 are internally connected, and connecting both to the PCB ground plane as close to the part as possible is recommended.", 3 VIA (in) "Logic Input A.", 4 VIB (in) "Logic Input B.", 5 VOC (out) "Logic Output C.", 6 VOD (out) "Logic Output D.", 7 CTRL1 (in) "Select Side 1 Output Default Level. Low = default output low. High = default output high.", 8 VDD1 (power) "3.0 V to 5.5 V Supply Voltage for Isolator Side 1.", 9 VDDC1 (power) "Output Pin of an Internal Regulator for Side 1. Bypass VDDC1 to GND1 with a 0.01 uF to 0.1 uF ceramic capacitor. Do not use this pin to power external circuits.", 10 GND1 (power) "Ground 1. Ground reference for Isolator Side 1. Pin 2 and Pin 10 are internally connected, and connecting both to the PCB ground plane as close to the part as possible is recommended.", 11 GND2 (power) "Ground 2. Ground reference for Isolator Side 2. Pin 11 and Pin 19 are internally connected, and connecting both to the PCB ground plane as close to the part as possible is recommended.", 12 VDDC2 (power) "Output Pin of an Internal Regulator for Side 2. Bypass VDDC2 to GND2 with a 0.01 uF to 0.1 uF ceramic capacitor. Do not use this pin to power external circuits.", 13 VDD2 (power) "3.0 V to 5.5 V Supply Voltage for Isolator Side 2.", 14 CTRL2 (in) "Select Side 2 Output Default Level. Low = default output low. High = default output high.", 15 VID (in) "Logic Input D.", 16 VIC (in) "Logic Input C.", 17 VOB (out) "Logic Output B.", 18 VOA (out) "Logic Output A.", 19 GND2 (power) "Ground 2. Ground reference for Isolator Side 2. Pin 11 and Pin 19 are internally connected, and connecting both to the PCB ground plane as close to the part as possible is recommended.", 20 VDDL2 (power) "1.8 V to 5.5 V Supply Voltage for Isolator Side 2 Input/Output Circuits. Bypass VDDL2 to GND2 with a 0.01 uF to 0.1 uF ceramic capacitor. For 3.0 V to 5.5 V input/output operation, VDDL2 can be connected directly to VDD2."

## ADUM3482BRSZ
designator U?
Quad Channel Small Isolator, 3.75 KV rms Insulation Rating, 25 Mbps Data Rate, 33 ns Delay, Industrial, 20-pin SOP (RS-20), Tube; Manufacturer: Analog Devices; PartNumber: ADUM3482BRSZ; Insulation Rating (kVrms): 3.75; Max Data Rate: 25Mbps; DatasheetVersion: Rev. 0; PackageVersion: Mar-03; PackageReference: RS-20; PackageDescription: 20-Pin Shrink Small Outline Package, Body 7.2 x 5.3 mm, Pitch 0.65 mm; Supplier 1: Digi-Key; Supplier Part Number 1: ADUM3482BRSZ-ND; Max Operating Temp (degreesC): 125; Mounting Technology: Surface Mount; Code_JEDEC: MO-150AE; ComponentLink1Description: Manufacturer URL; ComponentLink1URL: http://www.analog.com/en/index.html; ComponentLink2Description: Datasheet; ComponentLink2URL: http://www.analog.com/static/imported-files/data_sheets/ADuM3480_3481_3482.pdf; ComponentLink3Description: Package Specification; ComponentLink3URL: http://www.analog.com/static/imported-files/packages/318405805657546556503576154334802686596RS_20.pdf; ComponentLink4Description: URL Link1; ComponentLink4URL: Product URL:http://www.analog.com/en/interface-isolation/digital-isolators/adum3482/products/product.html
footprint ADI-RS-20_N (SOP, 20-Leads, Body 7.2x5.3mm, Pitch 0.65mm, IPC Medium Density)
footprint ADI-RS-20_L (SOP, 20-Leads, Body 7.2x5.3mm, Pitch 0.65mm, IPC High Density)
footprint ADI-RS-20_M (SOP, 20-Leads, Body 7.2x5.3mm, Pitch 0.65mm, IPC Low Density)
pins: 1 VDDL1 (power) "1.8 V to 5.5 V Supply Voltage for Isolator Side 1 Input/Output Circuits. Bypass VDDL1 to GND1 with a 0.01 uF to 0.1 uF ceramic capacitor. For 3.0 V to 5.5 V input/output operation, VDDL1 can be connected directly to VDD1.", 2 GND1 (power) "Ground 1. Ground reference for Isolator Side 1. Pin 2 and Pin 10 are internally connected, and connecting both to the PCB ground plane as close to the part as possible is recommended.", 3 VIA (in) "Logic Input A.", 4 VIB (in) "Logic Input B.", 5 VOC (out) "Logic Output C.", 6 VOD (out) "Logic Output D.", 7 CTRL1 (in) "Select Side 1 Output Default Level. Low = default output low. High = default output high.", 8 VDD1 (power) "3.0 V to 5.5 V Supply Voltage for Isolator Side 1.", 9 VDDC1 (power) "Output Pin of an Internal Regulator for Side 1. Bypass VDDC1 to GND1 with a 0.01 uF to 0.1 uF ceramic capacitor. Do not use this pin to power external circuits.", 10 GND1 (power) "Ground 1. Ground reference for Isolator Side 1. Pin 2 and Pin 10 are internally connected, and connecting both to the PCB ground plane as close to the part as possible is recommended.", 11 GND2 (power) "Ground 2. Ground reference for Isolator Side 2. Pin 11 and Pin 19 are internally connected, and connecting both to the PCB ground plane as close to the part as possible is recommended.", 12 VDDC2 (power) "Output Pin of an Internal Regulator for Side 2. Bypass VDDC2 to GND2 with a 0.01 uF to 0.1 uF ceramic capacitor. Do not use this pin to power external circuits.", 13 VDD2 (power) "3.0 V to 5.5 V Supply Voltage for Isolator Side 2.", 14 CTRL2 (in) "Select Side 2 Output Default Level. Low = default output low. High = default output high.", 15 VID (in) "Logic Input D.", 16 VIC (in) "Logic Input C.", 17 VOB (out) "Logic Output B.", 18 VOA (out) "Logic Output A.", 19 GND2 (power) "Ground 2. Ground reference for Isolator Side 2. Pin 11 and Pin 19 are internally connected, and connecting both to the PCB ground plane as close to the part as possible is recommended.", 20 VDDL2 (power) "1.8 V to 5.5 V Supply Voltage for Isolator Side 2 Input/Output Circuits. Bypass VDDL2 to GND2 with a 0.01 uF to 0.1 uF ceramic capacitor. For 3.0 V to 5.5 V input/output operation, VDDL2 can be connected directly to VDD2."

## ADUM3482BRSZ-RL7
designator U?
Quad Channel Small Isolator, 3.75 KV rms Insulation Rating, 25 Mbps Data Rate, 33 ns Delay, Industrial, 20-pin SOP (RS-20), Reel; Manufacturer: Analog Devices; PartNumber: ADUM3482BRSZ-RL7; Insulation Rating (kVrms): 3.75; Max Data Rate: 25Mbps; DatasheetVersion: Rev. 0; PackageVersion: Mar-03; PackageReference: RS-20; PackageDescription: 20-Pin Shrink Small Outline Package, Body 7.2 x 5.3 mm, Pitch 0.65 mm; Supplier 1: Digi-Key; Supplier Part Number 1: ADUM3482BRSZ-RL7-ND; Max Operating Temp (degreesC): 125; Mounting Technology: Surface Mount; Code_JEDEC: MO-150AE; ComponentLink1Description: Manufacturer URL; ComponentLink1URL: http://www.analog.com/en/index.html; ComponentLink2Description: Datasheet; ComponentLink2URL: http://www.analog.com/static/imported-files/data_sheets/ADuM3480_3481_3482.pdf; ComponentLink3Description: Package Specification; ComponentLink3URL: http://www.analog.com/static/imported-files/packages/318405805657546556503576154334802686596RS_20.pdf; ComponentLink4Description: URL Link1; ComponentLink4URL: Product URL:http://www.analog.com/en/interface-isolation/digital-isolators/adum3482/products/product.html
footprint ADI-RS-20_N (SOP, 20-Leads, Body 7.2x5.3mm, Pitch 0.65mm, IPC Medium Density)
footprint ADI-RS-20_L (SOP, 20-Leads, Body 7.2x5.3mm, Pitch 0.65mm, IPC High Density)
footprint ADI-RS-20_M (SOP, 20-Leads, Body 7.2x5.3mm, Pitch 0.65mm, IPC Low Density)
pins: 1 VDDL1 (power) "1.8 V to 5.5 V Supply Voltage for Isolator Side 1 Input/Output Circuits. Bypass VDDL1 to GND1 with a 0.01 uF to 0.1 uF ceramic capacitor. For 3.0 V to 5.5 V input/output operation, VDDL1 can be connected directly to VDD1.", 2 GND1 (power) "Ground 1. Ground reference for Isolator Side 1. Pin 2 and Pin 10 are internally connected, and connecting both to the PCB ground plane as close to the part as possible is recommended.", 3 VIA (in) "Logic Input A.", 4 VIB (in) "Logic Input B.", 5 VOC (out) "Logic Output C.", 6 VOD (out) "Logic Output D.", 7 CTRL1 (in) "Select Side 1 Output Default Level. Low = default output low. High = default output high.", 8 VDD1 (power) "3.0 V to 5.5 V Supply Voltage for Isolator Side 1.", 9 VDDC1 (power) "Output Pin of an Internal Regulator for Side 1. Bypass VDDC1 to GND1 with a 0.01 uF to 0.1 uF ceramic capacitor. Do not use this pin to power external circuits.", 10 GND1 (power) "Ground 1. Ground reference for Isolator Side 1. Pin 2 and Pin 10 are internally connected, and connecting both to the PCB ground plane as close to the part as possible is recommended.", 11 GND2 (power) "Ground 2. Ground reference for Isolator Side 2. Pin 11 and Pin 19 are internally connected, and connecting both to the PCB ground plane as close to the part as possible is recommended.", 12 VDDC2 (power) "Output Pin of an Internal Regulator for Side 2. Bypass VDDC2 to GND2 with a 0.01 uF to 0.1 uF ceramic capacitor. Do not use this pin to power external circuits.", 13 VDD2 (power) "3.0 V to 5.5 V Supply Voltage for Isolator Side 2.", 14 CTRL2 (in) "Select Side 2 Output Default Level. Low = default output low. High = default output high.", 15 VID (in) "Logic Input D.", 16 VIC (in) "Logic Input C.", 17 VOB (out) "Logic Output B.", 18 VOA (out) "Logic Output A.", 19 GND2 (power) "Ground 2. Ground reference for Isolator Side 2. Pin 11 and Pin 19 are internally connected, and connecting both to the PCB ground plane as close to the part as possible is recommended.", 20 VDDL2 (power) "1.8 V to 5.5 V Supply Voltage for Isolator Side 2 Input/Output Circuits. Bypass VDDL2 to GND2 with a 0.01 uF to 0.1 uF ceramic capacitor. For 3.0 V to 5.5 V input/output operation, VDDL2 can be connected directly to VDD2."